# Altium schematic symbol library Movandi_1.SchLib: 21 symbols
Pins are listed as number, name and electrical type; pins without a type are passive.

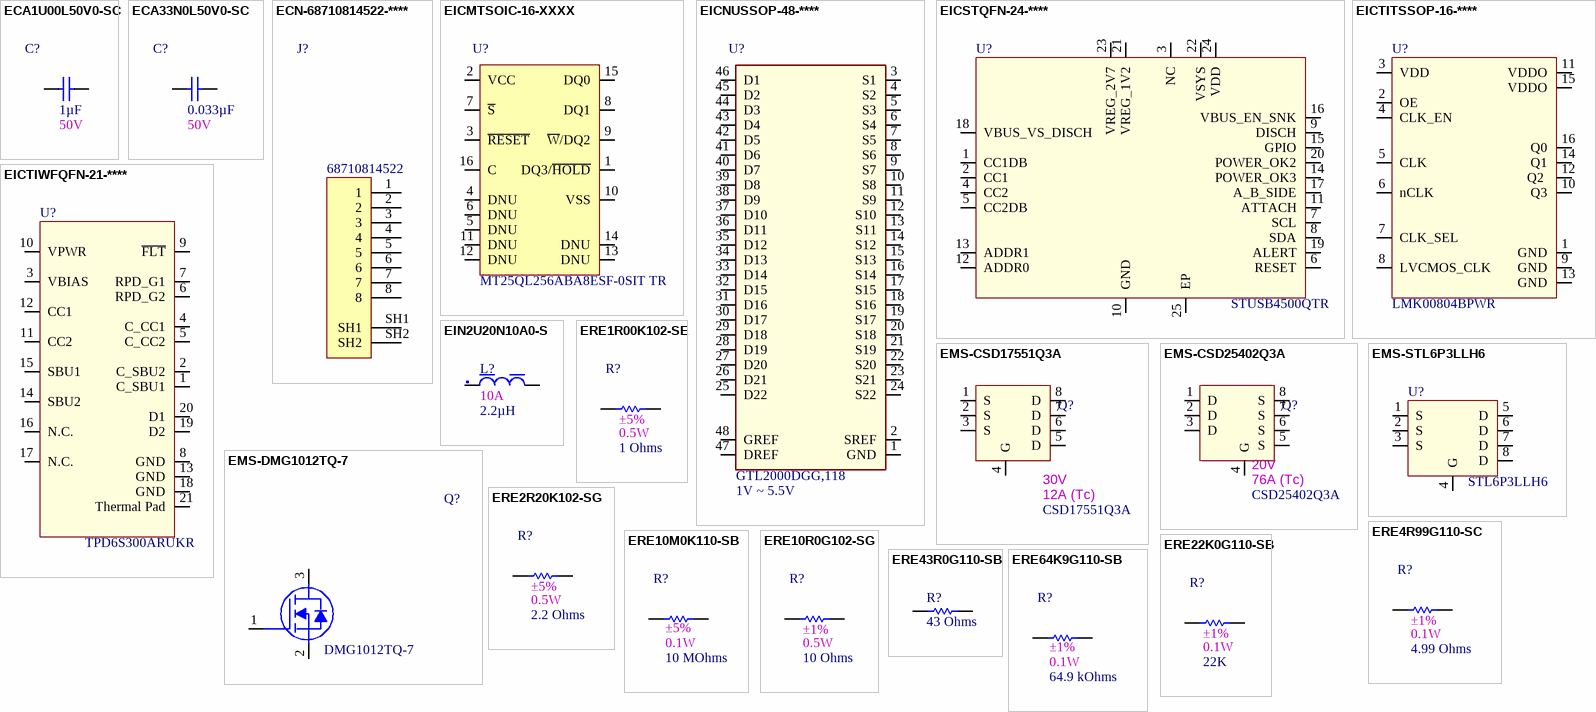
[diagram p0: symbols ECA1U00L50V0-SC to ERE64K9G110-SB]

## ECA1U00L50V0-SC
designator C?, comment value 1µF  1st Auxiliary Field: 50V  (hidden comment: CAP CER 1UF 50V X5R 0603)
Manufacturer Part Number: CL10A105KB8NNNC; Manufacturer: Samsung Electro-Mechanics; Internal Part Number: ECA1U00L50V0-SC; Vendor Part Number: 1276-1860-1-ND; 3rd Auxiliary Field: RoHS3 Compliant; Component Height (mm): 0.90mm; Temp Co: -55°C ~ 85°C; Vendor Name: Digi-Key; 2nd Auxiliary Field: ±10%; Part Type: CAP CER 1UF 50V X5R 0603; 4th Auxiliary Field: *
footprint SMDC0603
pins: 1, 2
2 alternate drawings of the same symbol

## ECA33N0L50V0-SC
designator C?, comment value 0.033µF  1st Auxiliary Field: 50V  (hidden comment: CAP CER 0.033UF 50V X7R 0603)
Manufacturer Part Number: C0603C333K5RACTU; Manufacturer: KEMET; Internal Part Number: ECA33N0L50V0-SC; Vendor Part Number: 399-7906-1-ND; 3rd Auxiliary Field: RoHS3 Compliant; Component Height (mm): 0.87mm; Vendor Name: Digi-Key; 2nd Auxiliary Field: ±10%; Part Type: CAP CER 0.033UF 50V X7R 0603; Temp Co: X7R; 4th Auxiliary Field: *
footprint SMDC0603
pins: 1, 2

## ECN-68710814522-****
designator J?, comment value 68710814522  (hidden comment: CONN FPC BOTTOM 5POS 1.00MM R/A)
Manufacturer: Würth Elektronik; Internal Part Number: ECN-68710814522-****; Vendor Part Number: 732-2011-1-ND; 1st Auxiliary Field: 8 POS; 2nd Auxiliary Field: 0.5A; 3rd Auxiliary Field: 50V; 4th Auxiliary Field: ROHS3 Compliant; Vendor Name: Digi-Key; Component Height (mm): 2.00mm; Temp Co: -25°C ~ 85°C; Part Type: CONN FPC BOTTOM 8POS 0.50MM R/A; Manufacturer Part Number: 68710814522
footprint CONN_68710814522
pins: 1, 2, 3, 4, 5, 6, 7, 8, SH1, SH2

## EICMTSOIC-16-XXXX
designator U?, comment value MT25QL256ABA8ESF-0SIT TR  (hidden comment: IC FLASH 256M SPI 133MHZ 16SOP2)
Internal Part Number: EICMTSOIC-16-XXXX; Manufacturer: Micron Technology Inc.; Vendor Part Number: 557-1986-1-ND; 1st Auxiliary Field: 2.7V ~ 3.6V; 3rd Auxiliary Field: ROHS3 Compliant; Component Height(mm): 2.65mm; Temp Co: -40°C ~ 85°C (TA); Vendor: Digi-Key; 2nd Auxiliary Field: 133MHz; 4th Auxiliary Field: *; Manufacturer Part Number: MT25QL256ABA8ESF-0SIT TR; Part Type: IC FLASH 256M SPI 133MHZ 16SOP2
footprint SOIC127P1030X265-16 (Footprint not found)
pins: 1 DQ3/~{HOLD}, 2 VCC, 3 ~{RESET}, 4 DNU, 5 DNU, 6 DNU, 7 ~{S}, 8 DQ1, 9 ~{W}/DQ2, 10 VSS, 11 DNU, 12 DNU, 13 DNU, 14 DNU, 15 DQ0, 16 C

## EICNUSSOP-48-****
designator U?, comment value GTL2000DGG,118  1st Auxiliary Field: 1V ~ 5.5V  (hidden comment: IC XLATR 22BIT BI-DIREC 48SSOP)
Internal Part Number: EICNUSSOP-48-****; Manufacturer: NXP USA Inc.; Vendor Part Number: 568-13784-1-ND; 4th Auxiliary Field: ROHS3 Compliant; Component Height (mm): 2.35mm; Temp Co: -40°C ~ 85°C (TA); Vendor Name: Digi-Key; 2nd Auxiliary Field: Bidirectional; Part Type: IC XLATR 22BIT BI-DIREC 48SSOP; Manufacturer Part Number: GTL2000DGG,118
footprint TSSOP50P810X120-48N (Footprint not found)
pins: 1 GND (power), 2 SREF, 3 S1 (io), 4 S2 (io), 5 S3 (io), 6 S4 (io), 7 S5 (io), 8 S6 (io), 9 S7 (io), 10 S8 (io), 11 S9 (io), 12 S10 (io), 13 S11 (io), 14 S12 (io), 15 S13 (io), 16 S14 (io), 17 S15 (io), 18 S16 (io), 19 S17 (io), 20 S18 (io), 21 S19 (io), 22 S20 (io), 23 S21 (io), 24 S22 (io), 25 D22 (io), 26 D21 (io), 27 D20 (io), 28 D19 (io), 29 D18 (io), 30 D17 (io), 31 D16 (io), 32 D15 (io), 33 D14 (io), 34 D13 (io), 35 D12 (io), 36 D11 (io), 37 D10 (io), 38 D9 (io), 39 D8 (io), 40 D7 (io), 41 D6 (io), 42 D5 (io), 43 D4 (io), 44 D3 (io), 45 D2 (io), 46 D1 (io), 47 DREF, 48 GREF

## EICSTQFN-24-****
designator U?, comment value STUSB4500QTR  (hidden comment: IC USB CONTROLLER I2C 24QFN)
Internal Part Number: EICSTQFN-24-****; Manufacturer: STMicroelectronics; Vendor Part Number: 497-18060-6-ND; 3rd Auxiliary Field: ROHS Compliant; Component Height (mm): 1.08mm; Temp Co: -40°C ~ 105°C; Vendor Name: Digi-Key; 1st Auxiliary Field: 4.1V ~ 22V; 2nd Auxiliary Field: Controller; 4th Auxiliary Field: *; Part Type: IC USB CONTROLLER I2C 24QFN; Manufacturer Part Number: STUSB4500QTR
footprint QFN50P405X405X100-25N
pins: 1 CC1DB, 2 CC1, 3 NC, 4 CC2, 5 CC2DB, 6 RESET, 7 SCL, 8 SDA, 9 DISCH, 10 GND, 11 ATTACH, 12 ADDR0, 13 ADDR1, 14 POWER_OK3, 15 GPIO, 16 VBUS_EN_SNK, 17 A_B_SIDE, 18 VBUS_VS_DISCH, 19 ALERT, 20 POWER_OK2, 21 VREG_1V2, 22 VSYS, 23 VREG_2V7, 24 VDD, 25 EP

## EICTITSSOP-16-****
designator U?, comment value LMK00804BPWR  (hidden comment: LOW SKEW MULTIPLEXED FANOUT BUFF)
Internal Part Number: EICTITSSOP-16-****; Manufacturer: Texas Instruments; Vendor Part Number: 296-46125-1-ND; 2nd Auxiliary Field: 1:4; 3rd Auxiliary Field: 3.135V ~ 3.465V; 4th Auxiliary Field: ROHS3 Compliant; Component Height (mm): 1.08mm; Temp Co: -40°C ~ 85°C (TA); Vendor Name: Digi-Key; 1st Auxiliary Field: 350MHz; Part Type: LOW SKEW MULTIPLEXED FANOUT BUFF; Manufacturer Part Number: LMK00804BPWR
footprint TSOP65P640X120-16N (TSOP, 16-Leads, Body 5.00x4.40mm, Pitch 0.65mm, IPC Medium Density)
pins: 1 GND, 2 OE, 3 VDD, 4 CLK_EN, 5 CLK, 6 nCLK, 7 CLK_SEL, 8 LVCMOS_CLK, 9 GND, 10 Q3, 11 VDDO, 12 Q2 , 13 GND, 14 Q1, 15 VDDO, 16 Q0

## EICTIWFQFN-21-****
designator U?, comment value TPD6S300ARUKR  (hidden comment: SURGE SUPP 8VIMP 20WFQFN)
Internal Part Number: EICTIWFQFN-21-****; Manufacturer: Texas Instruments; Vendor Part Number: 296-51856-1-ND; 2nd Auxiliary Field: Internal Switch; 3rd Auxiliary Field: ROHS3 Compliant; Component Height (mm): 0.88mm; Vendor Name: Digi-Key; 1st Auxiliary Field: 8V; 4th Auxiliary Field: *; Part Type: SURGE SUPP 8VIMP 20WFQFN; Temp Co: *; Manufacturer Part Number: TPD6S300ARUKR
footprint PQFN40P300X300X80_HS-21N (PQFN, 20-Leads, Body 3.00x3.00mm, Pitch 0.40mm, Thermal Pad 1.70x1.70mm, IPC Medium Density)
pins: 1 C_SBU1, 2 C_SBU2, 3 VBIAS, 4 C_CC1, 5 C_CC2, 6 RPD_G2, 7 RPD_G1, 8 GND, 9 ~{FLT}, 10 VPWR, 11 CC2, 12 CC1, 13 GND, 14 SBU2, 15 SBU1, 16 N.C., 17 N.C., 18 GND, 19 D2, 20 D1, 21 Thermal Pad

## EIN2U20N10A0-S
designator L?, comment value 2.2µH  1st Auxiliary Field: 10A  (hidden comment: FIXED IND 2.2UH 10A 8 MOHM SMD)
Manufacturer: Würth Elektronik; Internal Part Number: EIN2U20N10A0-S; Manufacturer Part Number: 744771002; Vendor Part Number: 732-1204-1-ND; 3rd Auxiliary Field: ROHS3 Compliant; Component Height (mm): 6.00mm; 4th Auxiliary Field: 11A; Vendor Name: Digi-Key; Temp Co: -40°C ~ 125°C; 2nd Auxiliary Field: ±20%; Part Type: FIXED IND 2.2UH 10A 8 MOHM SMD
footprint IND_744771002
pins: 1, 2
1 alternate drawing of the same symbol

## EMS-CSD17551Q3A
designator Q?, comment value CSD17551Q3A  1st Auxiliary Field: 30V  2nd Auxiliary Field: 12A (Tc)  (hidden comment: MOSFET N-CH 30V 12A 8VSON)
Internal Part Number: EMS-CSD17551Q3A; Manufacturer: Texas Instruments; Vendor Part Number: 296-35025-1-ND; Temp Co: -55°C ~ 150°C (TJ); 3rd Auxiliary Field: ROHS3 Compliant; Component Height (mm): 0.9mm; Vendor Name: Digi-Key; Part Type: MOSFET N-CH 30V 12A 8VSON; 4th Auxiliary Field: *; Manufacturer Part Number: CSD17551Q3A
footprint DFN315X300X90-8N
pins: 1 S, 2 S, 3 S, 4 G, 5 D, 6 D, 7 D, 8 D
1 alternate drawing of the same symbol

## EMS-CSD25402Q3A
designator Q?, comment value CSD25402Q3A  1st Auxiliary Field: 20V  2nd Auxiliary Field: 76A (Tc)  (hidden comment: MOSFET P-CH 20V 76A 8SON)
Internal Part Number: EMS-CSD25402Q3A; Manufacturer: Texas Instruments; Vendor Part Number: 296-38916-1-ND; Temp Co: -55°C ~ 150°C (TJ); 3rd Auxiliary Field: ROHS3 Compliant; Component Height (mm): 0.9mm; Vendor Name: Digi-Key; Part Type: MOSFET P-CH 20V 76A 8SON; 4th Auxiliary Field: *; Manufacturer Part Number: CSD25402Q3A
footprint DFN315X300X90-8N
pins: 1 D, 2 D, 3 D, 4 G, 5 S, 6 S, 7 S, 8 S
1 alternate drawing of the same symbol

## EMS-DMG1012TQ-7
designator Q?, comment value DMG1012TQ-7  (hidden comment: MOSFET NCH 20V 630MA SOT523)
Internal Part Number: EMS-DMG1012TQ-7; Manufacturer: Diodes Incorporated; Vendor Part Number: DMG1012TQ-7DICT-ND; Temp Co: -55°C ~ 150°C (TJ); 3rd Auxiliary Field: ROHS3 Compliant; Component Height (mm): 1mm; Vendor Name: Digi-Key; 2nd Auxiliary Field: 630mA (Ta); Part Type: MOSFET NCH 20V 630MA SOT523; 4th Auxiliary Field: *; Manufacturer Part Number: DMG1012TQ-7; 1st Auxiliary Field: 20V
footprint SOT140PX170X85-3N
pins: 1 G, 2 S, 3 D
1 alternate drawing of the same symbol

## EMS-STL6P3LLH6
designator U?, comment value STL6P3LLH6  (hidden comment: MOSFET P-CH 30V 6A POWERFLAT)
Internal Part Number: EMS-STL6P3LLH6; Manufacturer: STMicroelectronics; Vendor Part Number: 497-15315-1-ND; 2nd Auxiliary Field: 6A (Tc); 3rd Auxiliary Field: ROHS3 Compliant; Component Height (mm): 0.9mm; Temp Co: 150°C (TJ); Vendor Name: Digi-Key; 4th Auxiliary Field: *; Part Type: MOSFET P-CH 30V 6A POWERFLAT; Manufacturer Part Number: STL6P3LLH6; 1st Auxiliary Field: 30V
footprint SON65P310C325X90-8N
pins: 1 S, 2 S, 3 S, 4 G, 5 D, 6 D, 7 D, 8 D

## ERE1R00K102-SE
designator R?, comment value 1 Ohms  2nd Auxiliary Field: ±5%  1st Auxiliary Field: 0.5W  (hidden comment: RES SMD 1 OHM 5% 1/2W 0805)
Manufacturer: Panasonic Electronic Components; Vendor Part Number: P19220CT-ND; Manufacturer Part Number: ERJ-6DQJ1R0V; Internal Part Number: ERE1R00K102-SE; Vendor Name: Digi-Key; 3rd Auxiliary Field: ROHS3 Compliant; Component Height (mm): 0.70mm; Temp Co: -55°C ~ 155°C; Part Type: RES SMD 1 OHM 5% 1/2W 0805; 4th Auxiliary Field: *
footprint SMDR0805
pins: 1, 2

## ERE2R20K102-SG
designator R?, comment value 2.2 Ohms  2nd Auxiliary Field: ±5%  1st Auxiliary Field: 0.5W  (hidden comment: RES SMD 2.2 OHM 5% 1/2W 1206)
Manufacturer: Bourns Inc.; Vendor Part Number: CRM1206-JW-2R2ELFCT-ND; Manufacturer Part Number: CRM1206-JW-2R2ELF; Internal Part Number: ERE2R20K102-SG; Vendor Name: Digi-Key; 3rd Auxiliary Field: ROHS3 Compliant; Component Height (mm): 0.65mm; Temp Co: -55°C ~ 155°C; Part Type: RES SMD 2.2 OHM 5% 1/2W 1206; 4th Auxiliary Field: *
footprint SMDR1206
pins: 1, 2

## ERE4R99G110-SC
designator R?, comment value 4.99 Ohms  2nd Auxiliary Field: ±1%  1st Auxiliary Field: 0.1W  (hidden comment: RES SMD 4.99 OHM 1% 1/10W 0603)
Manufacturer: Vishay Dale; Vendor Part Number: 541-4.99HHCT-ND; Manufacturer Part Number: CRCW06034R99FKEA; Internal Part Number: ERE4R99G110-SC; Vendor Name: Digi-Key; 3rd Auxiliary Field: ROHS3 Compliant; Component Height (mm): 0.50mm; Temp Co: -55°C ~ 155°C; Part Type: RES SMD 4.99 OHM 1% 1/10W 0603; 4th Auxiliary Field: *
footprint SMDR0603
pins: 1, 2

## ERE10M0K110-SB
designator R?, comment value 10 MOhms  2nd Auxiliary Field: ±5%  1st Auxiliary Field: 0.1W  (hidden comment: RES SMD 10M OHM 5% 1/10W 0402)
Manufacturer Part Number: ERJ-2GEJ106X; Manufacturer: Panasonic Electronic Components; Internal Part Number: ERE10M0K110-SB; Vendor Part Number: P10MJCT-ND; 3rd Auxiliary Field: ROHS3 Compliant; Component Height (mm): 0.4mm; Temp Co: -55°C ~ 155°C; Vendor Name: Digi-Key; Part Type: RES SMD 10M OHM 5% 1/10W 0402; 4th Auxiliary Field: *
footprint SMDR0402
pins: 1, 2

## ERE10R0G102-SG
designator R?, comment value 10 Ohms  2nd Auxiliary Field: ±1%  1st Auxiliary Field: 0.5W  (hidden comment: RES SMD 10 OHM 1% 1/2W 1206)
Manufacturer: Bourns Inc.; Vendor Part Number: CRM1206-FX-10R0ELFCT-ND; Manufacturer Part Number: CRM1206-FX-10R0ELF; Internal Part Number: ERE10R0G102-SG; Vendor Name: Digi-Key; 3rd Auxiliary Field: ROHS3 Compliant; Component Height (mm): 0.65mm; Temp Co: -55°C ~ 155°C; Part Type: RES SMD 10 OHM 1% 1/2W 1206; 4th Auxiliary Field: *
footprint SMDR1206
pins: 1, 2

## ERE22K0G110-SB
designator R?, comment value 22K  2nd Auxiliary Field: ±1%  1st Auxiliary Field: 0.1W  (hidden comment: RES SMD 22K OHM 1% 1/10W 0402)
Manufacturer: Panasonic Electronic Components; Vendor Part Number: P22.0KLCT-ND; Manufacturer Part Number: ERJ-2RKF2202X; Internal Part Number: ERE22K0G110-SB; Vendor Name: Digi-Key; 3rd Auxiliary Field: ROHS3 Compliant; Component Height (mm): 0.40mm; Temp Co: -55°C ~ 155°C; Part Type: RES SMD 22K OHM 1% 1/10W 0402; 4th Auxiliary Field: *
footprint SMDR0402 (Footprint not found)
pins: 1, 2

## ERE43R0G110-SB
designator R?, comment value 43 Ohms  (hidden comment: RES SMD 43 OHM 1% 1/10W 0402)
Manufacturer Part Number: ERJ-2RKF43R0X; Manufacturer: Panasonic Electronic Components; Internal Part Number: ERE43R0G110-SB; Vendor Part Number: P43.0LCT-ND; 3rd Auxiliary Field: ROHS3 Compliant; Component Height (mm): 0.40mm; Temp Co: ±100ppm/°C; Vendor Name: Digi-Key; 1st Auxiliary Field: 0.1W, 1/10W; Part Type: RES SMD 43 OHM 1% 1/10W 0402; 2nd Auxiliary Field: ±1%
footprint SMDR0402
pins: 1, 2

## ERE64K9G110-SB
designator R?, comment value 64.9 kOhms  2nd Auxiliary Field: ±1%  1st Auxiliary Field: 0.1W  (hidden comment: RES SMD 64.9K OHM 1% 1/10W 0402)
Manufacturer Part Number: ERJ-2RKF6492X; Manufacturer: Panasonic Electronic Components; Internal Part Number: ERE64K9G110-SB; Vendor Part Number: P64.9KLCT-ND; 3rd Auxiliary Field: ROHS3 Compliant; Component Height (mm): 0.4mm; Temp Co: -55°C ~ 155°C; Vendor Name: Digi-Key; Part Type: RES SMD 64.9K OHM 1% 1/10W 0402; 4th Auxiliary Field: *
footprint SMDR0402
pins: 1, 2